# EAGLE library part ISP (library ds_ic_peripherals)
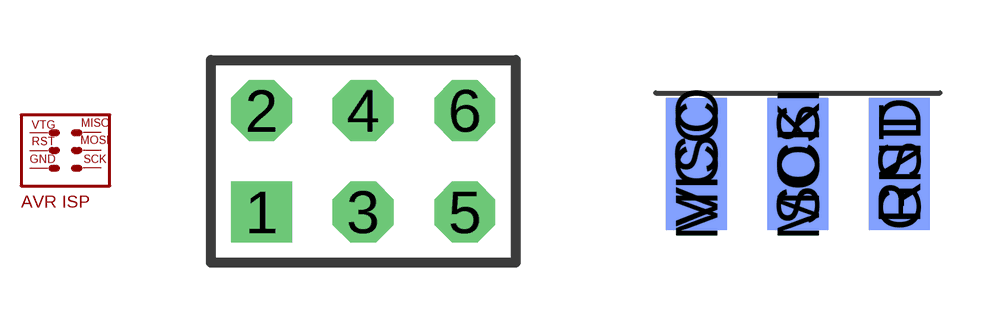
[diagram p27: symbol with the pads of ISP; footprints ISP, ISP(SMD]

Designator prefix -

## ISP  [ISP]
1  1  pas
2  2  pas
3  3  pas
4  4  pas
5  5  pas
6  6  pas

## ISPSMD  [ISP(SMD]
GND  6  pas
MISO  1  pas
MOSI  4  pas
RST  5  pas
SCK  3  pas
VCC  2  pas

## Footprint ISP (pad centres in mm)
drill 1.016 square: 1 -2.54,-1.27
drill 1.016 octagon: 2 -2.54,1.27; 3 0,-1.27; 4 0,1.27; 5 2.54,-1.27; 6 2.54,1.27

## Footprint ISP(SMD (pad centres in mm)
smd 1.524 x 3.302 bottom: GND 2.54,-1.27; MOSI 0,-1.27; VCC -2.54,-1.27
smd 1.524 x 3.302: MISO -2.54,-1.27; RST 2.54,-1.27; SCK 0,-1.27